# Altium footprint library 7B_6x32.PcbLib: 1 footprints
Each footprint in its own frame and in the unit in brackets; x right, y up, seen from the top. Pads: shape width x height; smd on the part's side, far side on the other; paste and mask are expansions set on the pad; w line width, h text height; cw(c..) or ccw(c..) is an arc to the next point about the centre after c.
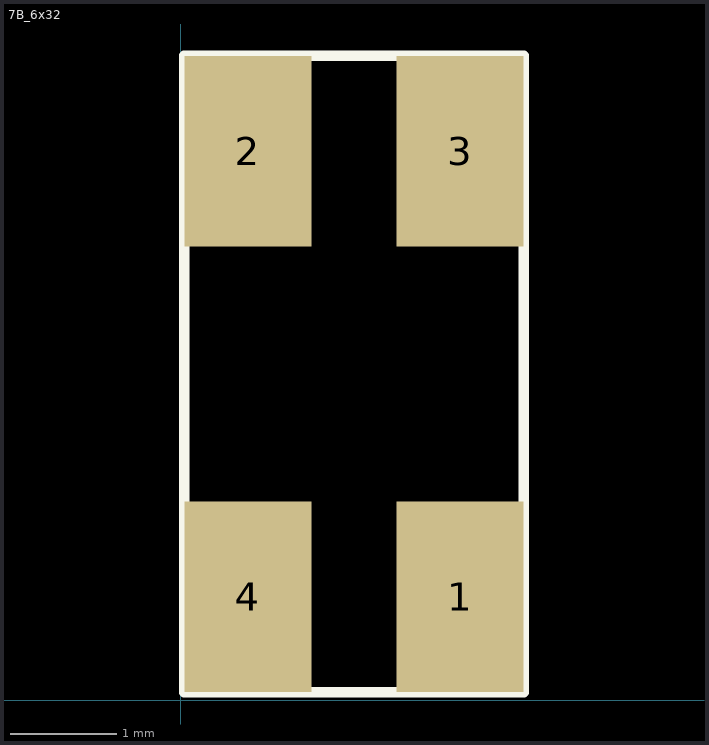
[diagram p0: the footprint, top view; thin cyan lines are the x and y axes]

## 7B_6x32 [mm]
pads (4):
  rect 1.2x1.8 smd: 1(2.631,0.975) 2(0.631,5.175) 3(2.631,5.175) 4(0.631,0.975)
Top Overlay:
  lines w0.1: 0.031,0.075 3.231,0.075 3.231,6.075 0.031,6.075 0.031,0.075